# Altium footprint library 阻容.PcbLib: 23 footprints (part 2 of 2)
Each footprint in its own frame and in the unit in brackets; x right, y up, seen from the top. Pads: shape width x height; smd on the part's side, far side on the other; paste and mask are expansions set on the pad; w line width, h text height; cw(c..) or ccw(c..) is an arc to the next point about the centre after c.
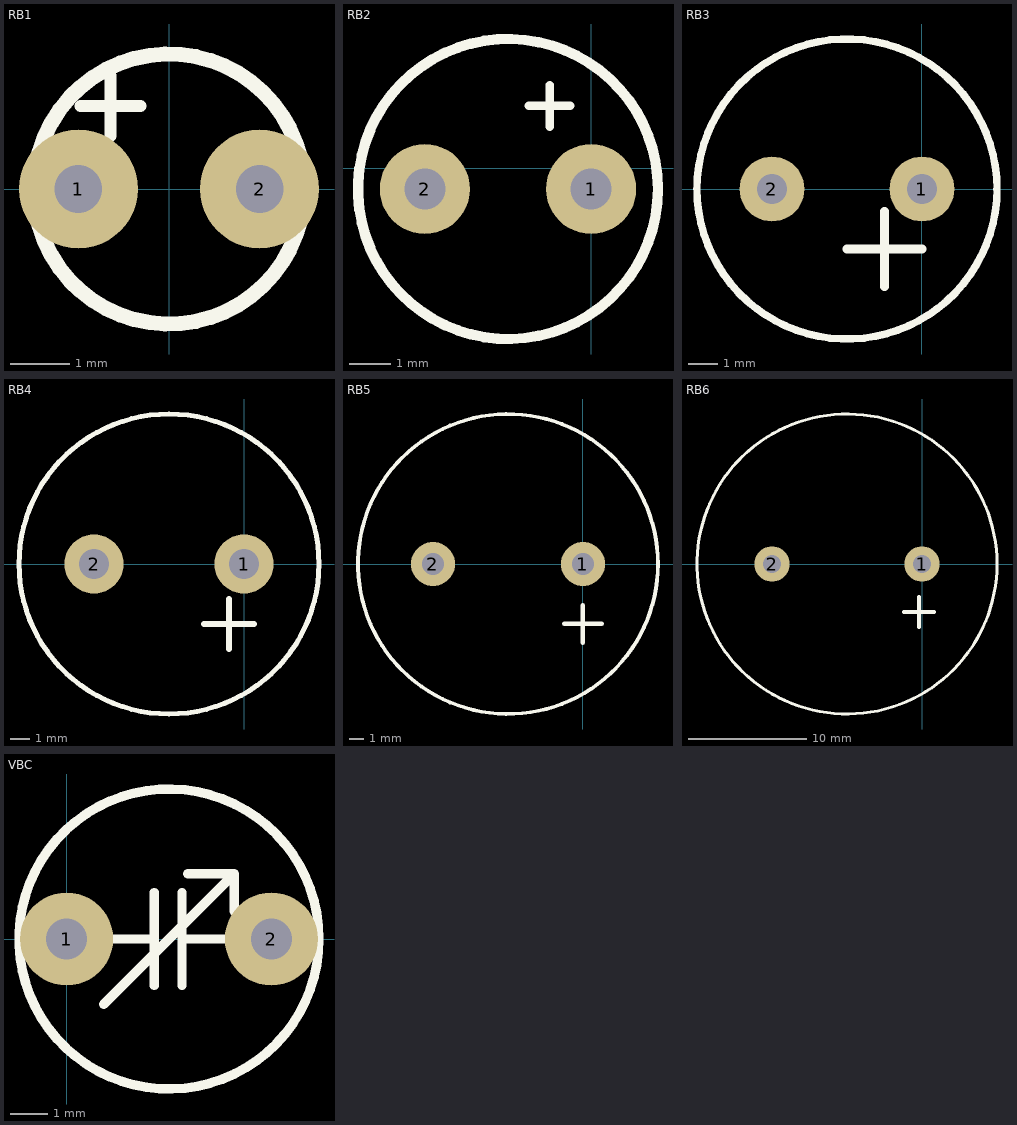
[diagram p1: the footprints below, top view; thin cyan lines are the x and y axes]

## RB1 [mm]
pads (2):
  round 2 hole 0.8: 1(-1.524,0) 2(1.524,0)
TopOverlay:
  circle w0.254: c0,0 r2.272
  lines w0.203: -1.492,1.4 -0.476,1.4 ; -0.984,0.892 -0.984,1.908

## RB2 [mm]
pads (2):
  round 2.2 hole 1: 1(0,-0.508) 2(-4.064,-0.508)
TopOverlay:
  circle w0.254: c-2.032,-0.508 r3.663
  lines w0.203: -1.524,1.524 -0.508,1.524 ; -1.016,1.016 -1.016,2.032

## RB3 [mm]
pads (2):
  round 2.2 hole 1: 1(0,0) 2(-5.08,0)
TopOverlay:
  circle w0.254: c-2.54,0 r5.08
  lines w0.305: -2.54,-2.032 0,-2.032 ; -1.27,-3.302 -1.27,-0.762

## RB4 [mm]
pads (2):
  round 3 hole 1.5: 1(0,0) 2(-7.62,0)
TopOverlay:
  circle w0.254: c-3.81,0 r7.62
  lines w0.305: -2.032,-3.048 0.508,-3.048 ; -0.762,-4.318 -0.762,-1.778

## RB5 [mm]
pads (2):
  round 3 hole 1.5: 1(0,0) 2(-10.16,0)
TopOverlay:
  circle w0.254: c-5.08,0 r10.16
  lines w0.305: -1.27,-4.064 1.27,-4.064 ; 0,-5.334 0,-2.794

## RB6 [mm]
pads (2):
  round 3 hole 1.5: 1(0,0) 2(-12.7,0)
TopOverlay:
  circle w0.254: c-6.35,0 r12.7
  lines w0.305: -1.524,-4.064 1.016,-4.064 ; -0.254,-5.334 -0.254,-2.794

## VBC [mm]
pads (2):
  round 2.5 hole 1.1: 1(0,0) 2(5.5,0)
TopOverlay:
  circle w0.254: c2.75,0 r4.031
  lines w0.254: 1,-1.75 1.5,-1.25 4,1.25 4.5,1.75 ; 1.1,0 2.35,0 ; 2.35,-1.25 2.35,1.25 ; 3.1,-1.25 3.1,1.25 ; 3.1,0 4.35,0 ; 3.25,1.75 4.5,1.75 ; 4.5,0.75 4.5,1.75